# Altium footprint library WR-TBL_Rising Cage Clamp_10.16mm.PcbLib: 81 footprints (part 1 of 6)
Each footprint in its own frame and in the unit in brackets; x right, y up, seen from the top. Pads: shape width x height; smd on the part's side, far side on the other; paste and mask are expansions set on the pad; w line width, h text height; cw(c..) or ccw(c..) is an arc to the next point about the centre after c.
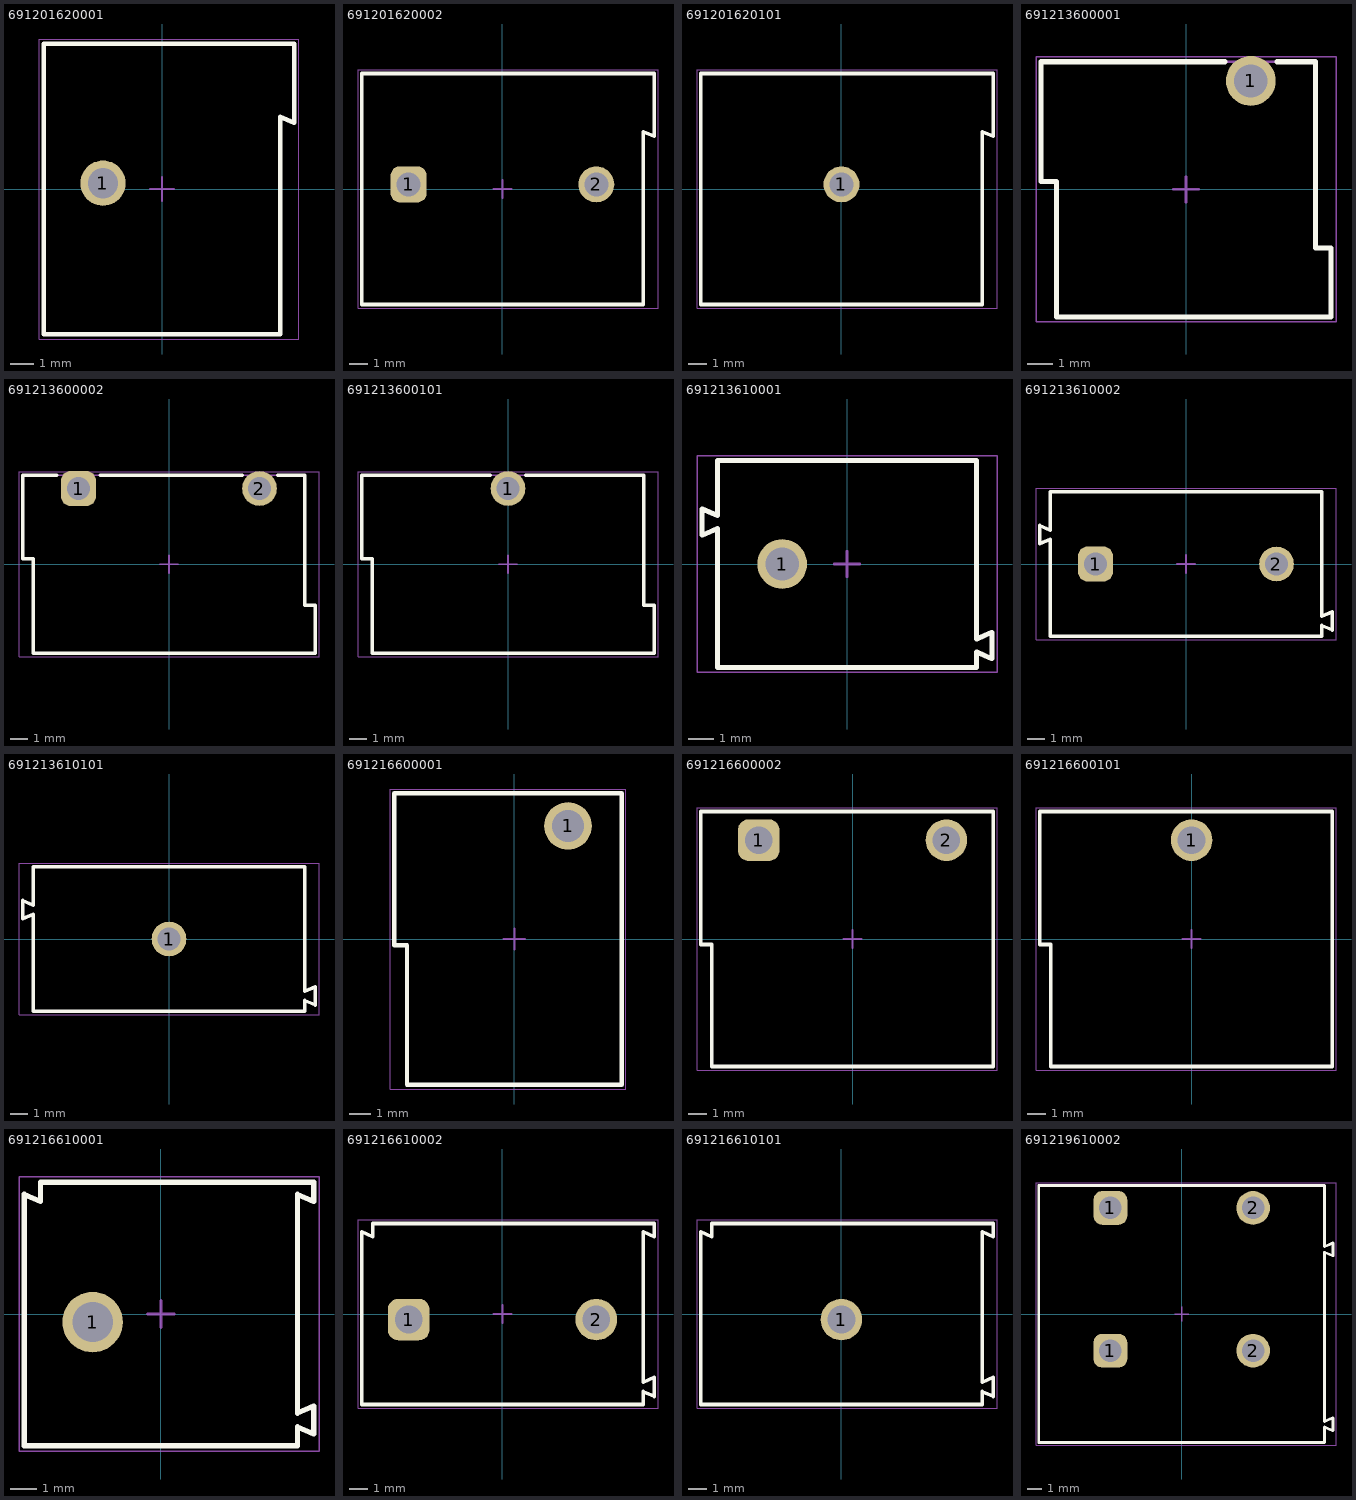
[diagram p0: the footprints below, top view; thin cyan lines are the x and y axes]

## 691201620001 [mm] "45¡ã Cable Entry with Rising Cage Clamp, pitch 10.16mm, 01p"
height 12
pads (1):
  round 1.95 hole 1.3: 1(-2.54,0.25)
Top Overlay:
  lines w0.2: 5.68,2.85 5.68,6.25 -5.08,6.25 -5.08,-6.25 5.08,-6.25 5.08,3.1 5.681,2.852
Top Assembly:
  lines w0.1: 5.68,2.85 5.68,6.25 -5.08,6.25 -5.08,-6.25 5.08,-6.25 5.08,3.1 5.681,2.852
Top Designator:
  text ".Designator" at -3.647,-0.357 h1
Top 3D Body:
  lines w0.1: 5.68,2.85 5.68,6.25 -5.08,6.25 -5.08,-6.25 5.08,-6.25 5.08,3.1 5.681,2.852
Top Courtyard:
  lines w0.05: -5.28,-6.45 5.88,-6.45 5.88,6.45 -5.28,6.45 -5.28,-6.45
Top Component Center:
  lines w0.1: -0.5,0 0.5,0 ; 0,-0.5 0,0.5
3D body "691201620001.stp": height 12.1, standoff -4.4, extent -5.08,-6.25 5.68,6.25

## 691201620002 [mm] "45¡ã Cable Entry with Rising Cage Clamp, pitch 10.16mm, 02p"
height 12
pads (2):
  rrect50% 1.95x1.95 hole 1.3: 1(-5.08,0.25)
  round 1.95 hole 1.3: 2(5.08,0.25)
Top Overlay:
  lines w0.2: 8.22,2.85 8.22,6.25 -7.62,6.25 -7.62,-6.25 7.62,-6.25 7.62,3.1 8.221,2.852
Top Assembly:
  lines w0.1: 8.22,2.85 8.22,6.25 -7.62,6.25 -7.62,-6.25 7.62,-6.25 7.62,3.1 8.221,2.852
Top Designator:
  text ".Designator" at -3.647,-0.357 h1
Top 3D Body:
  lines w0.1: 8.22,2.85 8.22,6.25 -7.62,6.25 -7.62,-6.25 7.62,-6.25 7.62,3.1 8.221,2.852
Top Courtyard:
  lines w0.05: -7.82,-6.45 -7.82,6.45 8.42,6.45 8.42,-6.45 -7.82,-6.45
Top Component Center:
  lines w0.1: -0.5,0 0.5,0 ; 0,-0.5 0,0.5
3D body "691201620002.stp": height 12.1, standoff -4.4, extent -7.62,-6.25 8.22,6.25

## 691201620101 [mm] "45¡ã Cable Entry with Rising Cage Clamp, pitch 10.16mm, 01p"
height 12
pads (1):
  round 1.95 hole 1.3: 1(0,0.25)
Top Overlay:
  lines w0.2: 8.22,2.85 8.22,6.25 -7.62,6.25 -7.62,-6.25 7.62,-6.25 7.62,3.1 8.221,2.852
Top Assembly:
  lines w0.1: 8.22,2.85 8.22,6.25 -7.62,6.25 -7.62,-6.25 7.62,-6.25 7.62,3.1 8.221,2.852
Top Designator:
  text ".Designator" at -3.647,-0.357 h1
Top 3D Body:
  lines w0.1: 8.22,2.85 8.22,6.25 -7.62,6.25 -7.62,-6.25 7.62,-6.25 7.62,3.1 8.221,2.852
Top Courtyard:
  lines w0.05: -7.82,-6.45 8.42,-6.45 8.42,6.45 -7.82,6.45 -7.82,-6.45
Top Component Center:
  lines w0.1: -0.5,0 0.5,0 ; 0,-0.5 0,0.5
3D body "691201620101.stp": height 12.1, standoff -4.4, extent -7.62,-6.25 8.22,6.25

## 691213600001 [mm] "Vertical Cable Entry with Rising Clamp, pitch 10.16mm, 01p"
height 8
pads (1):
  round 1.95 hole 1.3: 1(2.54,4.25)
Top Overlay:
  lines w0.2: 1.52,5 -5.68,5 -5.68,0.3 -5.08,0.3 -5.08,-5 5.68,-5 5.68,-2.3 5.08,-2.3 5.08,5 3.57,5
Top Assembly:
  lines w0.1: -5.68,0.3 -5.08,0.3 -5.08,-5 5.68,-5 5.68,-2.3 5.08,-2.3 5.08,5 -5.68,5 -5.68,0.3
Top Designator:
  text ".Designator" at -3.647,-0.357 h1
Top 3D Body:
  lines w0.1: -5.68,0.3 -5.68,5 5.08,5 5.08,-2.3 5.68,-2.3 5.68,-5 -5.08,-5 -5.08,0.3 -5.68,0.3
Top Courtyard:
  lines w0.05: -5.88,-5.2 5.88,-5.2 5.88,5.2 -5.88,5.2 -5.88,-5.2
Top Component Center:
  lines w0.1: -0.5,0 0.5,0 ; 0,-0.5 0,0.5
3D body "691213600001.stp": height 8.2, standoff -3.4, extent -5.68,-5 5.68,5

## 691213600002 [mm] "Vertical Cable Entry with Rising Clamp, pitch 10.16mm, 02p"
height 8
pads (2):
  rrect50% 1.95x1.95 hole 1.3: 1(-5.08,4.25)
  round 1.95 hole 1.3: 2(5.08,4.25)
Top Overlay:
  lines w0.2: -6.3,5 -8.22,5 -8.22,0.3 -7.62,0.3 -7.62,-5 8.22,-5 8.22,-2.3 7.62,-2.3 7.62,5 6.11,5 ; -3.86,5 4.1,5
Top Assembly:
  lines w0.1: -8.22,0.3 -7.62,0.3 -7.62,-5 8.22,-5 8.22,-2.3 7.62,-2.3 7.62,5 -8.22,5 -8.22,0.3
Top Designator:
  text ".Designator" at -3.647,-0.357 h1
Top 3D Body:
  lines w0.1: -8.22,0.3 -8.22,5 7.62,5 7.62,-2.3 8.22,-2.3 8.22,-5 -7.62,-5 -7.62,0.3 -8.22,0.3
Top Courtyard:
  lines w0.05: -8.42,-5.2 8.42,-5.2 8.42,5.2 -8.42,5.2 -8.42,-5.2
Top Component Center:
  lines w0.1: -0.5,0 0.5,0 ; 0,-0.5 0,0.5
3D body "691213600002.stp": height 8.2, standoff -3.4, extent -8.22,-5 8.22,5

## 691213600101 [mm] "Vertical Cable Entry with Rising Clamp, pitch 10.16mm, 01p"
height 8
pads (1):
  round 1.95 hole 1.3: 1(0,4.25)
Top Overlay:
  lines w0.2: -1,5 -8.22,5 -8.22,0.3 -7.62,0.3 -7.62,-5 8.22,-5 8.22,-2.3 7.62,-2.3 7.62,5 1,5
Top Assembly:
  lines w0.1: -8.22,0.3 -7.62,0.3 -7.62,-5 8.22,-5 8.22,-2.3 7.62,-2.3 7.62,5 -8.22,5 -8.22,0.3
Top Designator:
  text ".Designator" at -3.647,-0.357 h1
Top 3D Body:
  lines w0.1: -8.22,0.3 -8.22,5 7.62,5 7.62,-2.3 8.22,-2.3 8.22,-5 -7.62,-5 -7.62,0.3 -8.22,0.3
Top Courtyard:
  lines w0.05: -8.42,-5.2 8.42,-5.2 8.42,5.2 -8.42,5.2 -8.42,-5.2
Top Component Center:
  lines w0.1: -0.5,0 0.5,0 ; 0,-0.5 0,0.5
3D body "691213600101.stp": height 8.2, standoff -3.4, extent -8.22,-5 8.22,5

## 691213610001 [mm] "Horizontal Cable Entry with Rising Cage Clamp, pitch 10.16mm, 01p"
height 10
pads (1):
  round 1.95 hole 1.3: 1(-2.54,0)
Top Overlay:
  lines w0.2: -5.08,-4.05 5.08,-4.05 5.08,-3.45 5.68,-3.71 ; -5.079,-4.019 -5.079,1.389 -5.68,1.13 -5.68,2.16 -5.079,1.901 ; -5.08,1.9 -5.08,4.05 5.08,4.05 5.08,-2.94 5.68,-2.68 ; 5.68,-3.71 5.68,-2.68
Top Assembly:
  lines w0.1: -5.08,-4.05 5.08,-4.05 5.08,-3.45 5.68,-3.71 ; -5.079,-4.019 -5.079,1.389 -5.68,1.13 -5.68,2.16 -5.079,1.901 ; -5.08,1.9 -5.08,4.05 5.08,4.05 5.08,-2.94 5.68,-2.68 ; 5.68,-3.71 5.68,-2.68
Top Designator:
  text ".Designator" at -3.647,-0.357 h1
Top 3D Body:
  lines w0.1: -5.08,-4.05 5.08,-4.05 5.08,-3.45 5.68,-3.71 ; -5.079,-4.019 -5.079,1.389 -5.68,1.13 -5.68,2.16 -5.079,1.901 ; -5.08,1.9 -5.08,4.05 5.08,4.05 5.08,-2.94 5.68,-2.68 ; 5.68,-3.71 5.68,-2.68
Top Courtyard:
  lines w0.05: -5.88,-4.25 5.88,-4.25 5.88,4.25 -5.88,4.25 -5.88,-4.25
Top Component Center:
  lines w0.1: -0.5,0 0.5,0 ; 0,-0.5 0,0.5
3D body "691213610001.stp": height 10.1, standoff -3.4, extent -5.68,-4.05 5.68,4.05

## 691213610002 [mm] "Horizontal Cable Entry with Rising Cage Clamp, pitch 10.16mm, 02p"
height 10
pads (2):
  rrect50% 1.95x1.95 hole 1.3: 1(-5.08,0)
  round 1.95 hole 1.3: 2(5.08,0)
Top Overlay:
  lines w0.2: -7.62,-4.05 7.62,-4.05 7.62,-3.45 8.22,-3.71 ; -7.619,-4.019 -7.619,1.389 -8.22,1.13 -8.22,2.16 -7.619,1.901 ; -7.62,1.9 -7.62,4.05 7.62,4.05 7.62,-2.94 8.22,-2.68 ; 8.22,-3.71 8.22,-2.68
Top Assembly:
  lines w0.1: -7.62,-4.05 7.62,-4.05 7.62,-3.45 8.22,-3.71 ; -7.619,-4.019 -7.619,1.389 -8.22,1.13 -8.22,2.16 -7.619,1.901 ; -7.62,1.9 -7.62,4.05 7.62,4.05 7.62,-2.94 8.22,-2.68 ; 8.22,-3.71 8.22,-2.68
Top Designator:
  text ".Designator" at -3.647,-0.357 h1
Top 3D Body:
  lines w0.1: -7.62,-4.05 7.62,-4.05 7.62,-3.45 8.22,-3.71 ; -7.619,-4.019 -7.619,1.389 -8.22,1.13 -8.22,2.16 -7.619,1.901 ; -7.62,1.9 -7.62,4.05 7.62,4.05 7.62,-2.94 8.22,-2.68 ; 8.22,-3.71 8.22,-2.68
Top Courtyard:
  lines w0.05: -8.42,-4.25 -8.42,4.25 8.42,4.25 8.42,-4.25 -8.42,-4.25
Top Component Center:
  lines w0.1: -0.5,0 0.5,0 ; 0,-0.5 0,0.5
3D body "691213610002.stp": height 10.1, standoff -3.4, extent -8.22,-4.05 8.22,4.05

## 691213610101 [mm] "Horizontal Cable Entry with Rising Cage Clamp, pitch 10.16mm, 01p"
height 10
pads (1):
  round 1.95 hole 1.3: 1(0,0)
Top Overlay:
  lines w0.2: -7.62,-4.05 7.62,-4.05 7.62,-3.45 8.22,-3.71 ; -7.619,-4.019 -7.619,1.389 -8.22,1.13 -8.22,2.16 -7.619,1.901 ; -7.62,1.9 -7.62,4.05 7.62,4.05 7.62,-2.94 8.22,-2.68 ; 8.22,-3.71 8.22,-2.68
Top Assembly:
  lines w0.1: -7.62,-4.05 7.62,-4.05 7.62,-3.45 8.22,-3.71 ; -7.619,-4.019 -7.619,1.389 -8.22,1.13 -8.22,2.16 -7.619,1.901 ; -7.62,1.9 -7.62,4.05 7.62,4.05 7.62,-2.94 8.22,-2.68 ; 8.22,-3.71 8.22,-2.68
Top Designator:
  text ".Designator" at -3.647,-0.357 h1
Top 3D Body:
  lines w0.1: -7.62,-4.05 7.62,-4.05 7.62,-3.45 8.22,-3.71 ; -7.619,-4.019 -7.619,1.389 -8.22,1.13 -8.22,2.16 -7.619,1.901 ; -7.62,1.9 -7.62,4.05 7.62,4.05 7.62,-2.94 8.22,-2.68 ; 8.22,-3.71 8.22,-2.68
Top Courtyard:
  lines w0.05: -8.42,-4.25 -8.42,4.25 8.42,4.25 8.42,-4.25 -8.42,-4.25
Top Component Center:
  lines w0.1: -0.5,0 0.5,0 ; 0,-0.5 0,0.5
3D body "691213610101.stp": height 10.1, standoff -3.4, extent -8.22,-4.05 8.22,4.05

## 691216600001 [mm] "Vertical Cable Entry with Rising Cage Clamp, pitch 10.16mm, 01p"
height 9.8
pads (1):
  round 2.25 hole 1.5: 1(2.54,5.35)
Top Overlay:
  lines w0.2: -5.68,-0.3 -5.08,-0.3 -5.08,-6.9 5.08,-6.9 5.08,6.9 -5.68,6.9 -5.68,-0.3
Top Assembly:
  lines w0.1: -5.68,-0.3 -5.68,6.9 5.08,6.9 5.08,-6.9 -5.08,-6.9 -5.08,-0.3 -5.68,-0.3
Top Designator:
  text ".Designator" at -3.647,-0.357 h1
Top 3D Body:
  lines w0.1: -5.68,-0.3 -5.08,-0.3 -5.08,-6.9 5.08,-6.9 5.08,6.9 -5.68,6.9 -5.68,-0.3
Top Courtyard:
  lines w0.05: -5.88,-7.1 5.28,-7.1 5.28,7.1 -5.88,7.1 -5.88,-7.1
Top Component Center:
  lines w0.1: -0.5,0 0.5,0 ; 0,-0.5 0,0.5
3D body "691216600001.stp": height 9.9, standoff -3.4, extent -5.68,-6.9 5.08,6.9

## 691216600002 [mm] "Vertical Cable Entry with Rising Cage Clamp, pitch 10.16mm, 02p"
height 9.8
pads (2):
  rrect50% 2.25x2.25 hole 1.5: 1(-5.08,5.35)
  round 2.25 hole 1.5: 2(5.08,5.35)
Top Overlay:
  lines w0.2: -8.22,-0.3 -7.62,-0.3 -7.62,-6.9 7.62,-6.9 7.62,6.9 -8.22,6.9 -8.22,-0.3
Top Assembly:
  lines w0.1: -8.22,-0.3 -8.22,6.9 7.62,6.9 7.62,-6.9 -7.62,-6.9 -7.62,-0.3 -8.22,-0.3
Top Designator:
  text ".Designator" at -3.647,-0.357 h1
Top 3D Body:
  lines w0.1: -8.22,-0.3 -7.62,-0.3 -7.62,-6.9 7.62,-6.9 7.62,6.9 -8.22,6.9 -8.22,-0.3
Top Courtyard:
  lines w0.05: -8.42,-7.1 7.82,-7.1 7.82,7.1 -8.42,7.1 -8.42,-7.1
Top Component Center:
  lines w0.1: -0.5,0 0.5,0 ; 0,-0.5 0,0.5
3D body "691216600002.stp": height 9.9, standoff -3.4, extent -8.22,-6.9 7.62,6.9

## 691216600101 [mm] "Vertical Cable Entry with Rising Cage Clamp, pitch 10.16mm, 01p"
height 9.8
pads (1):
  round 2.25 hole 1.5: 1(0,5.35)
Top Overlay:
  lines w0.2: -8.22,-0.3 -8.22,6.9 7.62,6.9 7.62,-6.9 -7.62,-6.9 -7.62,-0.3 -8.22,-0.3
Top Assembly:
  lines w0.1: -8.22,-0.3 -7.62,-0.3 -7.62,-6.9 7.62,-6.9 7.62,6.9 -8.22,6.9 -8.22,-0.3
Top Designator:
  text ".Designator" at -3.647,-0.357 h1
Top 3D Body:
  lines w0.1: -8.22,-0.3 -8.22,6.9 7.62,6.9 7.62,-6.9 -7.62,-6.9 -7.62,-0.3 -8.22,-0.3
Top Courtyard:
  lines w0.05: -8.42,-7.1 -8.42,7.1 7.82,7.1 7.82,-7.1 -8.42,-7.1
Top Component Center:
  lines w0.1: -0.5,0 0.5,0 ; 0,-0.5 0,0.5
3D body "691216600101.stp": height 9.9, standoff -3.4, extent -8.22,-6.9 7.62,6.9

## 691216610001 [mm] "Horizontal Cable Entry with Rising Cage Clamp, pitch 10.16mm, 01p"
height 13.8
pads (1):
  round 2.25 hole 1.5: 1(-2.54,-0.3)
Top Overlay:
  lines w0.2: -4.481,4.188 -5.08,4.45 -5.08,-4.9 5.08,-4.9 5.08,-4.2 5.679,-4.462 ; -4.48,4.19 -4.48,4.9 5.68,4.9 5.68,4.19 5.08,4.45 5.08,-3.69 5.679,-3.428 ; 5.68,-4.46 5.68,-3.43
Top Assembly:
  lines w0.1: -4.481,4.188 -5.08,4.45 -5.08,-4.9 5.08,-4.9 5.08,-4.2 5.679,-4.462 ; -4.48,4.19 -4.48,4.9 5.68,4.9 5.68,4.19 5.08,4.45 5.08,-3.69 5.679,-3.428 ; 5.68,-4.46 5.68,-3.43
Top Designator:
  text ".Designator" at -3.647,-0.357 h1
Top 3D Body:
  lines w0.1: -4.481,4.188 -5.08,4.45 -5.08,-4.9 5.08,-4.9 5.08,-4.2 5.679,-4.462 ; -4.48,4.19 -4.48,4.9 5.68,4.9 5.68,4.19 5.08,4.45 5.08,-3.69 5.679,-3.428 ; 5.68,-4.46 5.68,-3.43
Top Courtyard:
  lines w0.05: -5.28,-5.1 5.88,-5.1 5.88,5.1 -5.28,5.1 -5.28,-5.1
Top Component Center:
  lines w0.1: -0.5,0 0.5,0 ; 0,-0.5 0,0.5
3D body "691216610001.stp": height 13.9, standoff -3.4, extent -5.08,-4.9 5.68,4.9

## 691216610002 [mm] "Horizontal Cable Entry with Rising Cage Clamp, pitch 10.16mm, 02p"
height 13.8
pads (2):
  rrect50% 2.25x2.25 hole 1.5: 1(-5.08,-0.3)
  round 2.25 hole 1.5: 2(5.08,-0.3)
Top Overlay:
  lines w0.2: -7.021,4.188 -7.62,4.45 -7.62,-4.9 7.62,-4.9 7.62,-4.2 8.219,-4.462 ; -7.02,4.19 -7.02,4.9 8.22,4.9 8.22,4.19 7.62,4.45 7.62,-3.69 8.219,-3.428 ; 8.22,-4.46 8.22,-3.43
Top Assembly:
  lines w0.1: -7.021,4.188 -7.62,4.45 -7.62,-4.9 7.62,-4.9 7.62,-4.2 8.219,-4.462 ; -7.02,4.19 -7.02,4.9 8.22,4.9 8.22,4.19 7.62,4.45 7.62,-3.69 8.219,-3.428 ; 8.22,-4.46 8.22,-3.43
Top Designator:
  text ".Designator" at -3.647,-0.357 h1
Top 3D Body:
  lines w0.1: -7.021,4.188 -7.62,4.45 -7.62,-4.9 7.62,-4.9 7.62,-4.2 8.219,-4.462 ; -7.02,4.19 -7.02,4.9 8.22,4.9 8.22,4.19 7.62,4.45 7.62,-3.69 8.219,-3.428 ; 8.22,-4.46 8.22,-3.43
Top Courtyard:
  lines w0.05: -7.82,-5.1 -7.82,5.1 8.42,5.1 8.42,-5.1 -7.82,-5.1
Top Component Center:
  lines w0.1: -0.5,0 0.5,0 ; 0,-0.5 0,0.5
3D body "691216610002.stp": height 13.9, standoff -3.4, extent -7.62,-4.9 8.22,4.9

## 691216610101 [mm] "Horizontal Cable Entry with Rising Cage Clamp, pitch 10.16mm, 01p"
height 13.8
pads (1):
  round 2.25 hole 1.5: 1(0,-0.3)
Top Overlay:
  lines w0.2: -7.021,4.188 -7.62,4.45 -7.62,-4.9 7.62,-4.9 7.62,-4.2 8.219,-4.462 ; -7.02,4.19 -7.02,4.9 8.22,4.9 8.22,4.19 7.62,4.45 7.62,-3.69 8.219,-3.428 ; 8.22,-4.46 8.22,-3.43
Top Assembly:
  lines w0.1: -7.021,4.188 -7.62,4.45 -7.62,-4.9 7.62,-4.9 7.62,-4.2 8.219,-4.462 ; -7.02,4.19 -7.02,4.9 8.22,4.9 8.22,4.19 7.62,4.45 7.62,-3.69 8.219,-3.428 ; 8.22,-4.46 8.22,-3.43
Top Designator:
  text ".Designator" at -3.647,-0.357 h1
Top 3D Body:
  lines w0.1: -7.021,4.188 -7.62,4.45 -7.62,-4.9 7.62,-4.9 7.62,-4.2 8.219,-4.462 ; -7.02,4.19 -7.02,4.9 8.22,4.9 8.22,4.19 7.62,4.45 7.62,-3.69 8.219,-3.428 ; 8.22,-4.46 8.22,-3.43
Top Courtyard:
  lines w0.05: -7.82,-5.1 -7.82,5.1 8.42,5.1 8.42,-5.1 -7.82,-5.1
Top Component Center:
  lines w0.1: -0.5,0 0.5,0 ; 0,-0.5 0,0.5
3D body "691216610101.stp": height 13.9, standoff -3.4, extent -7.62,-4.9 8.22,4.9

## 691219610002 [mm] "Serie 2196 - 10.16 mm Horizontal Entry Modular WR-TBL, 2 pin"
height 28.5
pads (4):
  rrect50% 2.4x2.4 hole 1.6: 1(-5.08,-2.61) 1(-5.08,7.55)
  round 2.4 hole 1.6: 2(5.08,-2.61) 2(5.08,7.55)
Top Overlay:
  lines w0.2: 10.76,-8.301 10.16,-8.05 10.16,-9.15 -10.18,-9.15 -10.18,9.15 10.16,9.15 10.16,4.8 10.76,5.051 ; 10.76,-8.3 10.76,-7.4 10.16,-7.651 10.16,4.4 10.76,4.149 ; 10.76,4.15 10.76,5.05
Top Assembly:
  lines w0.1: 10.76,-8.301 10.16,-8.05 10.16,-9.15 -10.18,-9.15 -10.18,9.15 10.16,9.15 10.16,4.8 10.76,5.051 ; 10.76,-8.3 10.76,-7.4 10.16,-7.651 10.16,4.4 10.76,4.149 ; 10.76,4.15 10.76,5.05
Top Designator:
  text ".Designator" at -3.647,-0.357 h1
Top 3D Body:
  lines w0.1: 10.76,-8.301 10.16,-8.05 10.16,-9.15 -10.18,-9.15 -10.18,9.15 10.16,9.15 10.16,4.8 10.76,5.051 ; 10.76,-8.3 10.76,-7.4 10.16,-7.651 10.16,4.4 10.76,4.149 ; 10.76,4.15 10.76,5.05
Top Courtyard:
  lines w0.05: -10.38,-9.35 -10.38,9.35 10.98,9.35 10.98,-9.35 -10.38,-9.35
Top Component Center:
  lines w0.1: -0.5,0 0.5,0 ; 0,-0.5 0,0.5
3D body "691219610002.stp": height 28.6, standoff -4.5, extent -10.18,-9.15 10.74,9.15